# EAGLE library part DS1126 (library gost_con_other)
Разъем RJ-45 DS1126/TJ16S-8P8C
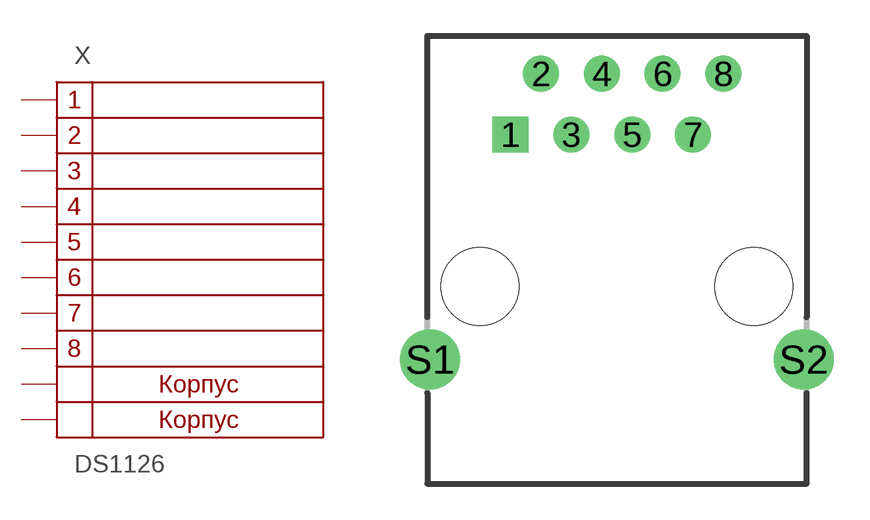
[diagram p6: symbol with the pads of RJ45(DS1126); footprint RJ45(DS1126)]

Designator prefix X

## DS1126  [RJ45(DS1126)]
1  1
2  2
3  3
4  4
5  5
6  6
7  7
8  8
S1  9
S2  10

## Footprint RJ45(DS1126) (pad centres in mm)
drill 0.9 pad 1.5 square: 1 -4.445,6.35
drill 0.9 pad 1.5: 2 -3.175,8.89; 3 -1.905,6.35; 4 -0.635,8.89; 5 0.635,6.35; 6 1.905,8.89; 7 3.175,6.35; 8 4.445,8.89
drill 1.6 pad 2.5: S1 -7.8,-3.05; S2 7.8,-3.05
hole 3.25 at -5.715,0
hole 3.25 at 5.715,0